# Altium footprint library Aosmd.PcbLib: 1 footprints
Each footprint in its own frame and in the unit in brackets; x right, y up, seen from the top. Pads: shape width x height; smd on the part's side, far side on the other; paste and mask are expansions set on the pad; w line width, h text height; cw(c..) or ccw(c..) is an arc to the next point about the centre after c.
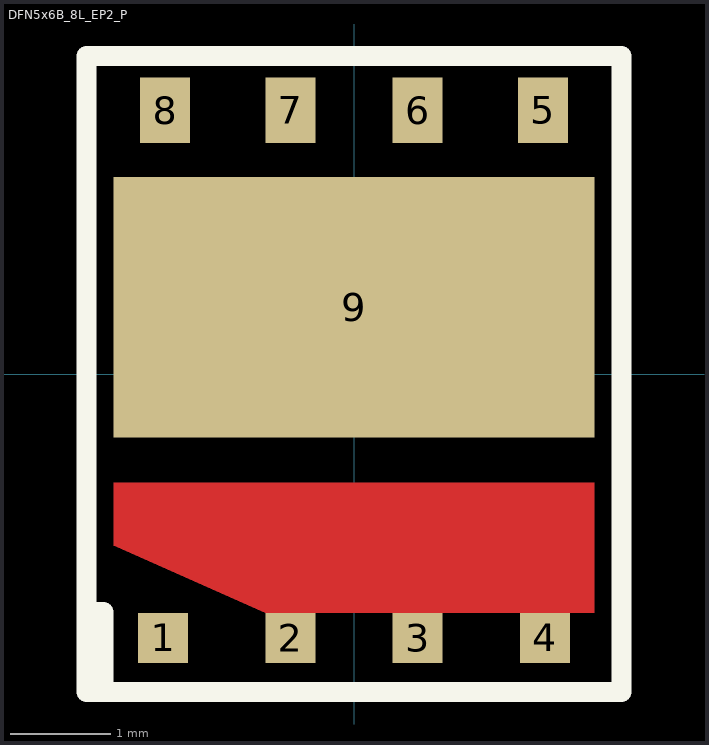
[diagram p0: the footprint, top view; thin cyan lines are the x and y axes]

## DFN5x6B_8L_EP2_P [mm]
height 0.9
pads (9):
  rect 0.5x0.5 smd: 1(-1.905,-2.632) 2(-0.635,-2.632) 3(0.635,-2.632) 4(1.905,-2.632)
  rect 0.5x0.65 smd: 5(1.885,2.633) 6(0.635,2.633) 7(-0.635,2.633) 8(-1.885,2.633)
  rect 4.8x2.6 smd: 9(0,0.668)
Top Layer:
  rectangle: -0.885,-2.382 2.4,-1.707
  rectangle: -2.4,-1.707 2.4,-1.082
  region: -2.4,-1.707 -0.885,-2.382 -0.885,-1.707
Top Overlay:
  lines w0.2: -2.65,-2.375 -2.5,-2.375 -2.5,-3.175 ; -2.667,-3.175 -2.667,3.175 2.667,3.175 2.667,-3.175 -2.667,-3.175
3D body: height 0.9, standoff 0.05, extent -2.413,-2.667 2.413,2.794